# EAGLE library part OPAMP-741-DIP (library opamp-741-dip)
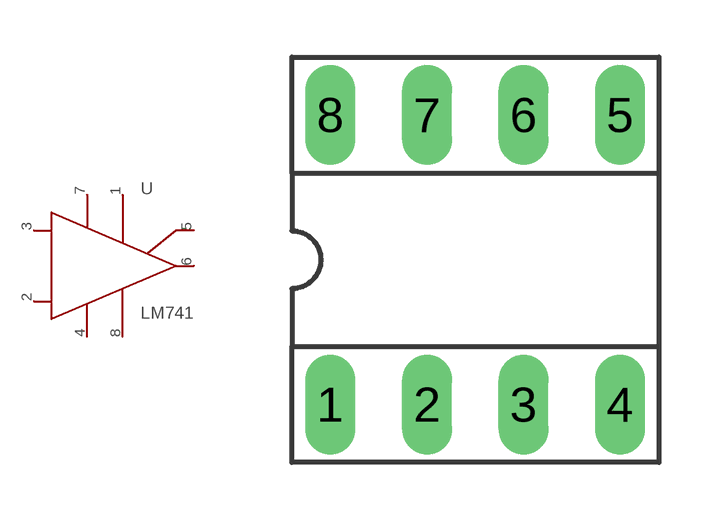
[diagram p0: symbol with the pads of OPAMP-741-DIP; footprint OPAMP-741-DIP]

Designator prefix -

## OPAMP-741-DIP  [OPAMP-741-DIP]
1  1
2  2
3  3
4  4
5  5
6  6
7  7
8  8

## Footprint OPAMP-741-DIP (pad centres in mm)
drill 0.8 long: 1 0,0; 2 2.54,0; 3 5.08,0; 4 7.62,0; 5 7.62,7.62; 6 5.08,7.62; 7 2.54,7.62; 8 0,7.62